# Altium footprint library CMS-131304-SMT-TR.PcbLib: 1 footprints
Each footprint in its own frame and in the unit in brackets; x right, y up, seen from the top. Pads: shape width x height; smd on the part's side, far side on the other; paste and mask are expansions set on the pad; w line width, h text height; cw(c..) or ccw(c..) is an arc to the next point about the centre after c.
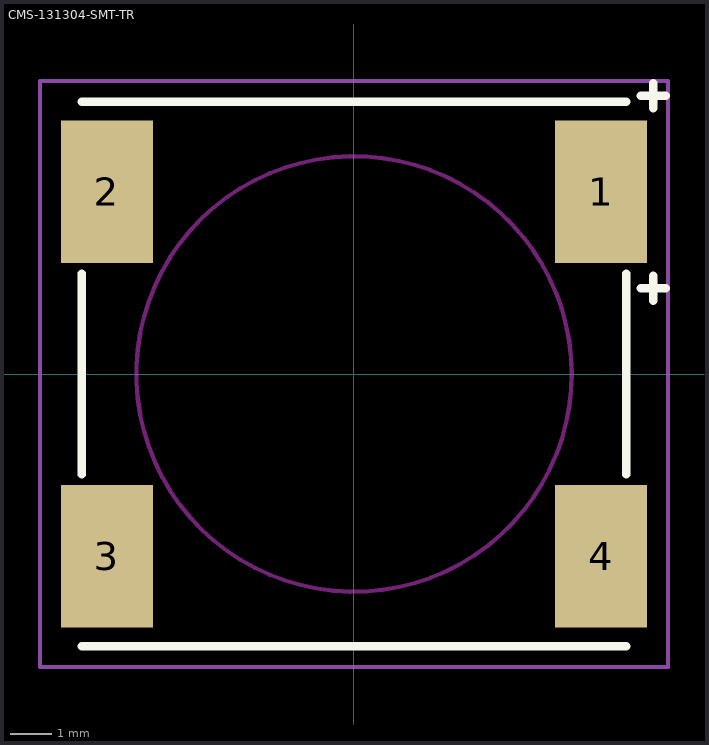
[diagram p0: the footprint, top view; thin cyan lines are the x and y axes]

## CMS-131304-SMT-TR [mm]
height 2.5
pads (4):
  rect 2.2x3.4 smd: 1(5.9,4.35) 2(-5.9,4.35) 3(-5.9,-4.35) 4(5.9,-4.35)
Top Overlay:
  lines w0.2: -6.5,-6.5 6.5,-6.5 ; -6.5,-2.4 -6.5,2.4 ; -6.5,6.5 6.5,6.5 ; 6.5,-2.4 6.5,2.4 ; 6.85,2.05 7.45,2.05 ; 6.85,6.65 7.45,6.65 ; 7.15,1.75 7.15,2.35 ; 7.15,6.35 7.15,6.95
Keep-Out Layer:
  circle w0.1: c0,0 r5.2
Top Courtyard:
  lines w0.1: -7.5,-6.05 -7.5,-7 ; -6.5,-7 -7.5,-7 ; 6.5,7 7.5,7 ; 7.5,6.05 7.5,7 ; -7.5,-7 7.5,-7 7.5,7 ; -7.5,-7 -7.5,7 7.5,7
3D body: height 4, standoff 0, extent -6.5,-6.5 6.5,6.5
3D body: height 4.4, standoff 0.1, extent 3.5,2.5 4.5,5.5
3D body: height 4.4, standoff 0.1, extent 2.5,3.5 5.5,4.5